# Altium footprint library Semi Conductor.PcbLib: 63 footprints (part 1 of 4)
Each footprint in its own frame and in the unit in brackets; x right, y up, seen from the top. Pads: shape width x height; smd on the part's side, far side on the other; paste and mask are expansions set on the pad; w line width, h text height; cw(c..) or ccw(c..) is an arc to the next point about the centre after c.
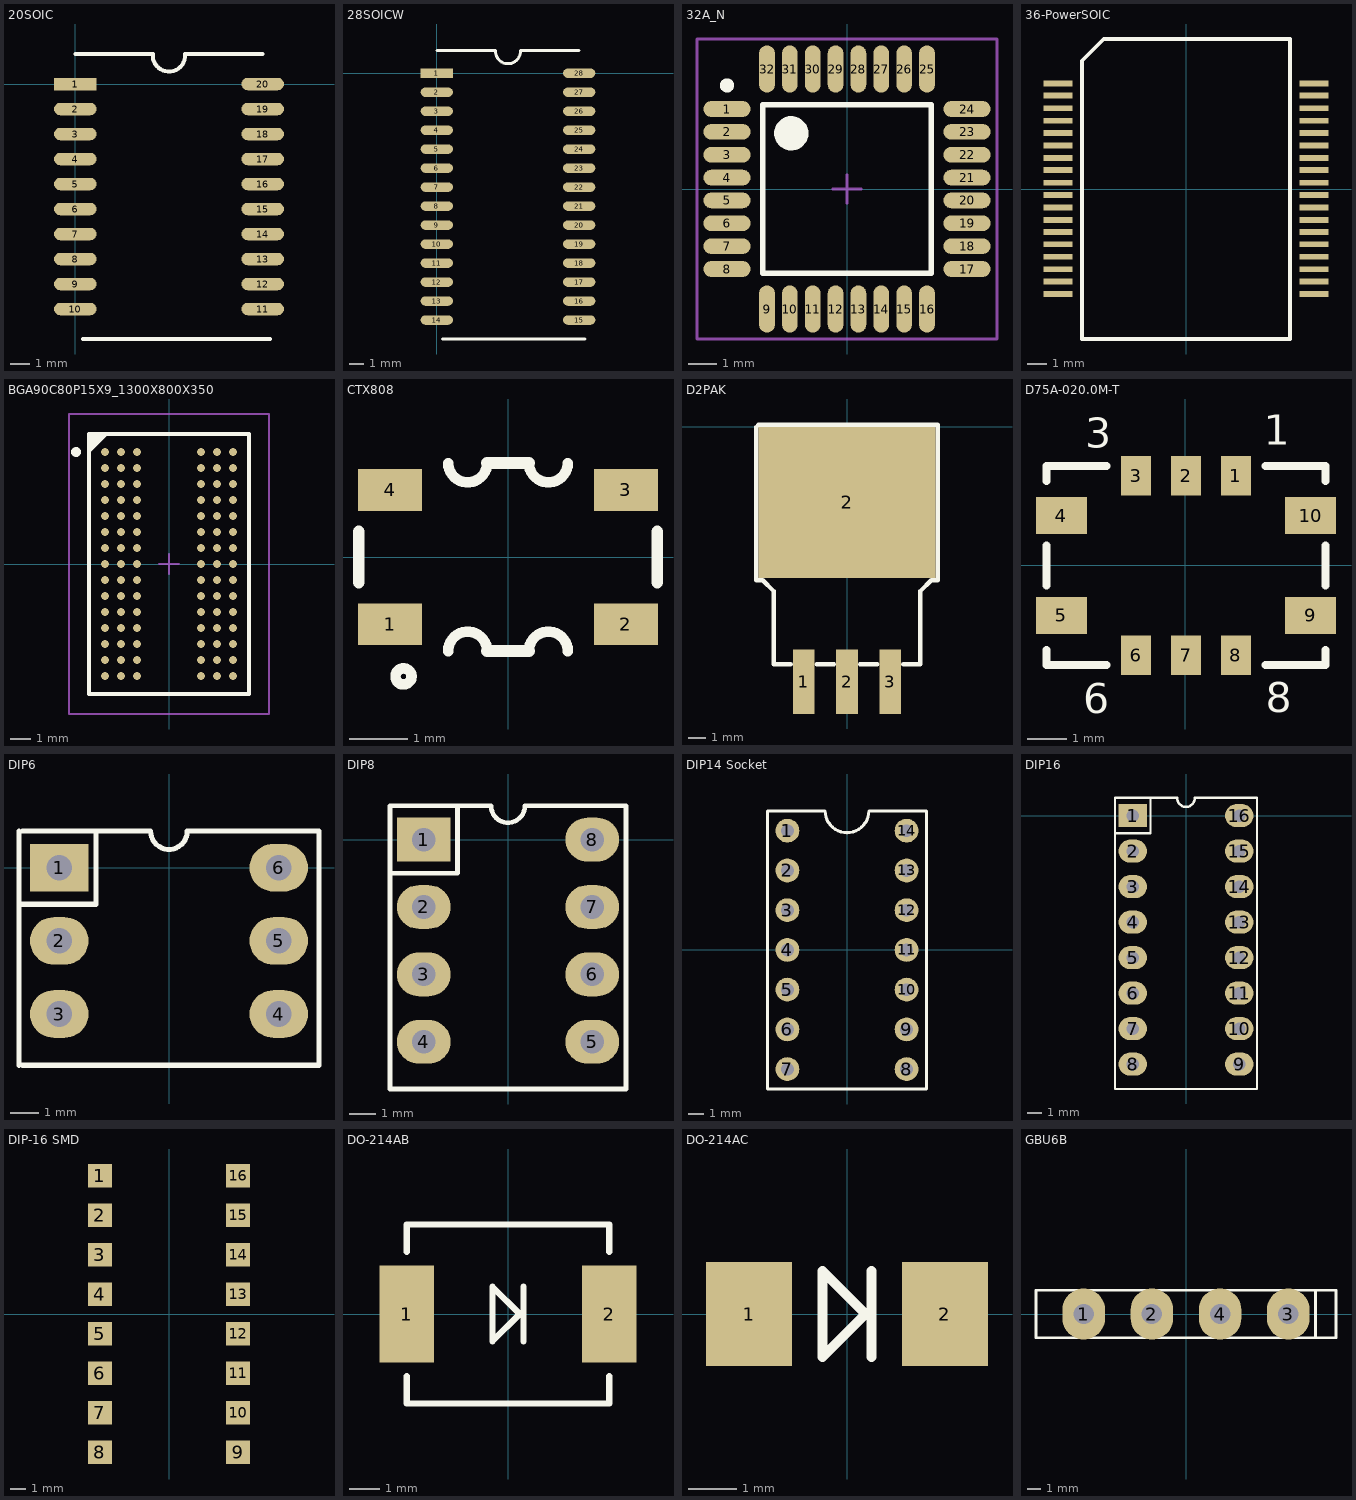
[diagram p0: the footprints below, top view; thin cyan lines are the x and y axes]

## 20SOIC [mil] "20SOIC"
height 100
pads (20):
  rect 85x25 smd: 1(0,0)
  oval 85x25 smd: 2(0,-50) 3(0,-100) 4(0,-150) 5(0,-200) 6(0,-250) 7(0,-300) 8(0,-350) 9(0,-400) 10(0,-450) 11(375,-450) 12(375,-400) 13(375,-350) 14(375,-300) 15(375,-250) 16(375,-200) 17(375,-150) 18(375,-100) 19(375,-50) 20(375,0)
TopOverlay:
  lines w8: 0,60 155,60 ccw(c187.5,57.5) 185,25 ccw(c187.5,57.5) 220,60 375,60 ; 15,-510 390,-510

## 28SOICW [mil]
height 100
pads (28):
  rect 85x25 smd: 1(0,0)
  oval 85x25 smd: 2(0,-50) 3(0,-100) 4(0,-150) 5(0,-200) 6(0,-250) 7(0,-300) 8(0,-350) 9(0,-400) 10(0,-450) 11(0,-500) 12(0,-550) 13(0,-600) 14(0,-650) 15(375,-650) 16(375,-600) 17(375,-550) 18(375,-500) 19(375,-450) 20(375,-400) 21(375,-350) 22(375,-300) 23(375,-250) 24(375,-200) 25(375,-150) 26(375,-100) 27(375,-50) 28(375,0)
TopOverlay:
  lines w8: 0,60 155,60 ccw(c187.5,57.5) 185,25 ccw(c187.5,57.5) 220,60 375,60 ; 15,-700 390,-700

## 32A_N [mm] "32-Pin Thin Quad Flat Pack 0.8 mm Pitch, IPC Medium Density"
height 1.2
pads (32):
  oval 1.65x0.55 smd: 1(-4.2,2.8) 2(-4.2,2) 3(-4.2,1.2) 4(-4.2,0.4) 5(-4.2,-0.4) 6(-4.2,-1.2) 7(-4.2,-2) 8(-4.2,-2.8) 17(4.2,-2.8) 18(4.2,-2) 19(4.2,-1.2) 20(4.2,-0.4) 21(4.2,0.4) 22(4.2,1.2) 23(4.2,2) 24(4.2,2.8)
  oval 0.55x1.65 smd: 9(-2.8,-4.2) 10(-2,-4.2) 11(-1.2,-4.2) 12(-0.4,-4.2) 13(0.4,-4.2) 14(1.2,-4.2) 15(2,-4.2) 16(2.8,-4.2) 25(2.8,4.2) 26(2,4.2) 27(1.2,4.2) 28(0.4,4.2) 29(-0.4,4.2) 30(-1.2,4.2) 31(-2,4.2) 32(-2.8,4.2)
TopOverlay:
  circle w0.6: c-1.95,1.95 r0.3
  circle w0.25: c-4.2,3.625 r0.125
  lines w0.2: -2.95,-2.95 2.95,-2.95 2.95,2.95 -2.95,2.95 -2.95,-2.95
Mechanical15:
  lines w0.1: -0.5,0 0.5,0 ; 0,-0.5 0,0.5 ; -5.25,-5.25 5.25,-5.25 5.25,5.25 -5.25,5.25 -5.25,-5.25

## 36-PowerSOIC [mil] "Motor Driver"
height 140
pads (36):
  rect 60x12 smd: 1(-265,218) 2(-265,193) 3(-265,167) 4(-265,141) 5(-265,116) 6(-265,90) 7(-265,64) 8(-265,39) 9(-265,13) 10(-265,-12.4) 11(-265,-38) 12(-265,-64) 13(-265,-89) 14(-265,-114) 15(-265,-140) 16(-265,-166) 17(-265,-191) 18(-265,-217) 19(265,-217) 20(265,-191) 21(265,-166) 22(265,-140) 23(265,-114) 24(265,-89) 25(265,-64) 26(265,-38) 27(265,-12.4) 28(265,13) 29(265,39) 30(265,64) 32(265,116) 33(265,141) 34(265,167) 35(265,193) 36(265,218) 82(265,90)
TopOverlay:
  lines w8: -215,-310 -215,264.97 -214.97,265 -170,309.97 -170,310 215,310 215,-310 -215,-310

## BGA90C80P15X9_1300X800X350 [mm] "BGA, 90-Leads, Body 13.0x8.0mm,  Pitch 0.80mm"
height 3.5
pads (90):
  round 0.4 smd: A1(-3.2,5.6) A2(-2.4,5.6) A3(-1.6,5.6) A7(1.6,5.6) A8(2.4,5.6) A9(3.2,5.6) B1(-3.2,4.8) B2(-2.4,4.8) B3(-1.6,4.8) B7(1.6,4.8) B8(2.4,4.8) B9(3.2,4.8) C1(-3.2,4) C2(-2.4,4) C3(-1.6,4) C7(1.6,4) C8(2.4,4) C9(3.2,4) D1(-3.2,3.2) D2(-2.4,3.2) D3(-1.6,3.2) D7(1.6,3.2) D8(2.4,3.2) D9(3.2,3.2) E1(-3.2,2.4) E2(-2.4,2.4) E3(-1.6,2.4) E7(1.6,2.4) E8(2.4,2.4) E9(3.2,2.4) F1(-3.2,1.6) F2(-2.4,1.6) F3(-1.6,1.6) F7(1.6,1.6) F8(2.4,1.6) F9(3.2,1.6) G1(-3.2,0.8) G2(-2.4,0.8) G3(-1.6,0.8) G7(1.6,0.8) G8(2.4,0.8) G9(3.2,0.8) H1(-3.2,0) H2(-2.4,0) H3(-1.6,0) H7(1.6,0) H8(2.4,0) H9(3.2,0) J1(-3.2,-0.8) J2(-2.4,-0.8) J3(-1.6,-0.8) J7(1.6,-0.8) J8(2.4,-0.8) J9(3.2,-0.8) K1(-3.2,-1.6) K2(-2.4,-1.6) K3(-1.6,-1.6) K7(1.6,-1.6) K8(2.4,-1.6) K9(3.2,-1.6) L1(-3.2,-2.4) L2(-2.4,-2.4) L3(-1.6,-2.4) L7(1.6,-2.4) L8(2.4,-2.4) L9(3.2,-2.4) M1(-3.2,-3.2) M2(-2.4,-3.2) M3(-1.6,-3.2) M7(1.6,-3.2) M8(2.4,-3.2) M9(3.2,-3.2) N1(-3.2,-4) N2(-2.4,-4) N3(-1.6,-4) N7(1.6,-4) N8(2.4,-4) N9(3.2,-4) P1(-3.2,-4.8) P2(-2.4,-4.8) P3(-1.6,-4.8) P7(1.6,-4.8) P8(2.4,-4.8) P9(3.2,-4.8) R1(-3.2,-5.6) R2(-2.4,-5.6) R3(-1.6,-5.6) R7(1.6,-5.6) R8(2.4,-5.6) R9(3.2,-5.6)
TopOverlay:
  circle w0.25: c-4.65,5.6 r0.125
  region: -3.141,6.5 -4,5.641 -4,6.5
  lines w0.2: -4,5.641 -3.141,6.5 ; -4,-6.5 -4,6.5 4,6.5 4,-6.5 -4,-6.5
Mechanical13:
  lines w0.1: -4,-6.5 -4,6.5 4,6.5 4,-6.5 -4,-6.5
Mechanical15:
  lines w0.1: -0.5,0 0.5,0 ; 0,-0.5 0,0.5 ; -5,-7.5 -5,7.5 5,7.5 5,-7.5 -5,-7.5
3D body: height 3.5, standoff 0.3, extent -4,-6.5 4,6.5

## CTX808 [mil]
pads (4):
  rect 43x28 smd: 1(-79,-45) 2(79,-45) 3(79,45) 4(-79,45)
TopOverlay:
  circle w7: c-70,-80 r5.39
  lines w7: -40.08,-63 cw(c-27.04,-63) -14,-63 ; -40.08,63 ccw(c-27.04,63) -14,63 ; 14,-63 cw(c27.04,-63) 40.08,-63 ; 14,63 ccw(c27.04,63) 40.08,63
  lines w8: -100,-17 -100,17 ; -14,-63 14,-63 ; -14,63 14,63 ; 100,-17 100,17
3D body: height 60, standoff 3, extent -101,-59 100,59

## D2PAK [mil]
pads (4):
  rect 50x150 smd: 1(-100,-590) 2(0,-590) 3(100,-590)
  rect 410x350 smd: 2(0,-175)
TopOverlay:
  lines w10: -130,-550 -170,-550 -170,-380 -195,-355 -210,-355 -210,0 -205,5 210,5 210,-355 195,-355 170,-380 170,-550 130,-550 ; -70,-550 -30,-550 ; 30,-550 70,-550

## D75A-020.0M-T [mil]
pads (10):
  rect 30x40 smd: 1(51,90) 2(1,90) 3(-49,90) 6(-49,-90) 7(1,-90) 8(51,-90)
  rect 51x37 smd: 4(-124,50) 5(-124,-50) 9(126,-50) 10(126,50)
TopOverlay:
  lines w8: -139,-85 -139,-100 -79,-100 ; -139,-20 -139,20 ; -139,85 -139,100 -79,100 ; 81,-100 141,-100 141,-85 ; 81,100 141,100 141,85 ; 141,-20 141,20
  text "8" at 81,-147 h30
  text "6" at -102,-148 h30
  text "3" at -100,118 h30
  text "1" at 79,121 h30
3D body: height 59.45, standoff -0.39, extent -136,-98 139.59,98.85

## DIP6 [mil]
pads (6):
  rect 80x65 hole 35: 1(-150,0)
  oval 80x65 hole 35: 2(-150,-100) 3(-150,-200) 4(150,-200) 5(150,-100) 6(150,0)
TopOverlay:
  lines w7: -205,-270 -205,50 ; -200,-270 205,-270 205,50 25,50 cw(c-0.05,50) -25.11,50 -75,50 -200,50 ; -200,-50 -100,-50 -100,50
3D body: height 169.69, standoff -129.13, extent -155,-260 159.96,58.11

## DIP8 [mil]
pads (8):
  rect 80x65 hole 35: 1(-125,0)
  oval 80x65 hole 35: 2(-125,-100) 3(-125,-200) 4(-125,-300) 5(125,-300) 6(125,-200) 7(125,-100) 8(125,0)
TopOverlay:
  lines w7: -175,-150 -175,-370 ; -175,-50 -75,-50 -75,50 ; -175,-370 175,-370 175,50 25,50 cw(c-0.05,50) -25.11,50 -75,50 ; -175,-370 -175,50 -75,50

## DIP14 Socket [mil]
pads (14):
  round 60 hole 32: 1(-150,300) 2(-150,200) 3(-150,100) 4(-150,0) 5(-150,-100) 6(-150,-200) 7(-150,-300) 8(149.97,-300) 9(149.97,-200) 10(149.97,-100) 11(149.97,0) 12(149.97,100) 13(149.97,200) 14(149.97,300)
TopOverlay:
  lines w8: -200,-350 -200,350 -55,350 ccw(c0,350) 55,350 200,350 200,-350 -200,-350
3D body: height 185, standoff -110.28, extent -199.62,-350.8 199.6,350.78

## DIP16 [mil]
pads (16):
  rect 80x65 hole 35: 1(-150,0)
  oval 80x65 hole 35: 2(-150,-100) 3(-150,-200) 4(-150,-300) 5(-150,-400) 6(-150,-500) 7(-150,-600) 8(-150,-700) 9(150,-700) 10(150,-600) 11(150,-500) 12(150,-400) 13(150,-300) 14(150,-200) 15(150,-100) 16(150,0)
TopOverlay:
  lines w7: -200,-50 -100,-50 -100,50 ; -200,-770 200,-770 200,50 25,50 cw(c-0.05,50) -25.11,50 -75,50 -200,50 -200,-770
3D body: height 200.79, standoff -129.92, extent -155,-738.7 154.84,48.7

## DIP-16 SMD [mil]
pads (16):
  rect 60x60 smd: 1(-175,350) 2(-175,250) 3(-175,150) 4(-175,50) 5(-175,-50) 6(-175,-150) 7(-175,-250) 8(-175,-350) 9(175,-350) 10(175,-250) 11(175,-150) 12(175,-50) 13(175,50) 14(175,150) 15(175,250) 16(175,350)
3D body: height 175.2, standoff 0, extent -196.84,-399.64 196.86,399.64

## DO-214AB [mil] "Diode"
height 100
pads (2):
  rect 70x125 smd: 1(-130,0) 2(130,0)
TopOverlay:
  lines w8: -130,-80 -130,-115 130,-115 130,-80 ; -130,80 -130,115 130,115 130,80 ; 20,-35 20,35 ; -20,-35 15,0 -20,35 -20,0 -20,-35
3D body: height 39.57, standoff -51.18, extent -155.5,-116 157.5,116.28

## DO-214AC [mil]
height 125
pads (2):
  rect 70x85 smd: 1(-80,0) 2(80,0)
TopOverlay:
  lines w8: 20,-35 20,35 ; -20,-35 15,0 -20,35 -20,0 -20,-35
3D body: height 90, standoff 0, extent -108.01,-55 107.99,54.99

## GBU6B [mil] "Full Wave Bridge"
height 725
pads (4):
  oval 125x150 hole 60: 1(-300,0) 2(-100,0) 3(300,0) 4(100,0)
TopOverlay:
  lines w8: 380,-70 380,70 ; -440,-70 440,-70 440,70 -440,70 -440,-70